# Altium footprint library PC104_singleHeader_footprint.PcbLib: 4 footprints
Each footprint in its own frame and in the unit in brackets; x right, y up, seen from the top. Pads: shape width x height; smd on the part's side, far side on the other; paste and mask are expansions set on the pad; w line width, h text height; cw(c..) or ccw(c..) is an arc to the next point about the centre after c.
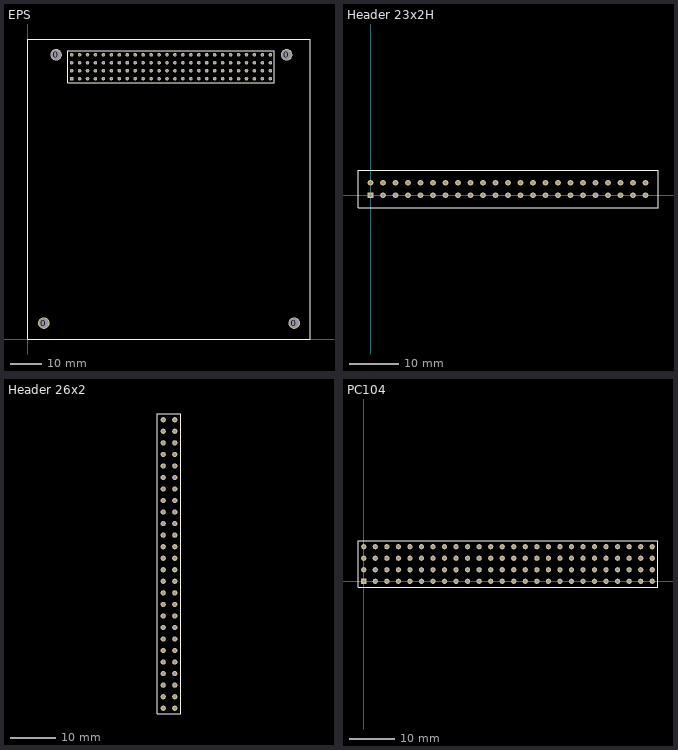
[diagram p0: the footprints below, top view; thin cyan lines are the x and y axes]

## EPS [mil] "3rd gen 1U EPS from clydespace"
height 487.8
pads (108):
  round 145 hole 125: 0(200,200) 0(355,3575) 0(3255,3575) 0(3350,200)
  rect 45x45 hole 25 square: 1(550,3275)
  round 45 hole 25 square: 2(550,3375) 3(650,3275) 4(650,3375) 5(750,3275) 6(750,3375) 7(850,3275) 8(850,3375) 9(950,3275) 10(950,3375) 11(1050,3275) 12(1050,3375) 13(1150,3275) 14(1150,3375) 15(1250,3275) 16(1250,3375) 17(1350,3275) 18(1350,3375) 19(1450,3275) 20(1450,3375) 21(1550,3275) 22(1550,3375) 23(1650,3275) 24(1650,3375) 25(1750,3275) 26(1750,3375) 27(1850,3275) 28(1850,3375) 29(1950,3275) 30(1950,3375) 31(2050,3275) 32(2050,3375) 33(2150,3275) 34(2150,3375) 35(2250,3275) 36(2250,3375) 37(2350,3275) 38(2350,3375) 39(2450,3275) 40(2450,3375) 41(2550,3275) 42(2550,3375) 43(2650,3275) 44(2650,3375) 45(2750,3275) 46(2750,3375) 47(2850,3275) 48(2850,3375) 49(2950,3275) 50(2950,3375) 51(3050,3275) 52(3050,3375) 53(550,3475) 54(550,3575) 55(650,3475) 56(650,3575) 57(750,3475) 58(750,3575) 59(850,3475) 60(850,3575) 61(950,3475) 62(950,3575) 63(1050,3475) 64(1050,3575) 65(1150,3475) 66(1150,3575) 67(1250,3475) 68(1250,3575) 69(1350,3475) 70(1350,3575) 71(1450,3475) 72(1450,3575) 73(1550,3475) 74(1550,3575) 75(1650,3475) 76(1650,3575) 77(1750,3475) 78(1750,3575) 79(1850,3475) 80(1850,3575) 81(1950,3475) 82(1950,3575) 83(2050,3475) 84(2050,3575) 85(2150,3475) 86(2150,3575) 87(2250,3475) 88(2250,3575) 89(2350,3475) 90(2350,3575) 91(2450,3475) 92(2450,3575) 93(2550,3475) 94(2550,3575) 95(2650,3475) 96(2650,3575) 97(2750,3475) 98(2750,3575) 99(2850,3475) 100(2850,3575) 101(2950,3475) 102(2950,3575) 103(3050,3475) 104(3050,3575)
Top Overlay:
  lines w10: 0,0 3550.2,0 3550.2,3773.62 0,3773.62 0,0 ; 500,3225 3100,3225 3100,3625 500,3625 500,3225

## Header 23x2H [mil] "23 pin, two row header"
pads (46):
  rect 45x45 hole 25 square: 1(0,0)
  round 45 hole 25 square: 2(0,100) 3(100,0) 4(100,100) 5(200,0) 6(200,100) 7(300,0) 8(300,100) 9(400,0) 10(400,100) 11(500,0) 12(500,100) 13(600,0) 14(600,100) 15(700,0) 16(700,100) 17(800,0) 18(800,100) 19(900,0) 20(900,100) 21(1000,0) 22(1000,100) 23(1100,0) 24(1100,100) 25(1200,0) 26(1200,100) 27(1300,0) 28(1300,100) 29(1400,0) 30(1400,100) 31(1500,0) 32(1500,100) 33(1600,0) 34(1600,100) 35(1700,0) 36(1700,100) 37(1800,0) 38(1800,100) 39(1900,0) 40(1900,100) 41(2000,0) 42(2000,100) 43(2100,0) 44(2100,100) 45(2200,0) 46(2200,100)
Top Overlay:
  lines w10: -100,-100 -100,200 2300,200 2300,-100 -100,-100

## Header 26x2 [mil]
pads (54):
  round 45 hole 25 square: 1(-49600,-49900) 1(-49600,-49900) 2(-49700,-49900) 2(-49700,-49900) 3(-49600,-49800) 4(-49700,-49800) 5(-49600,-49700) 6(-49700,-49700) 7(-49600,-49600) 8(-49700,-49600) 9(-49600,-49500) 10(-49700,-49500) 11(-49600,-49400) 12(-49700,-49400) 13(-49600,-49300) 14(-49700,-49300) 15(-49600,-49200) 16(-49700,-49200) 17(-49600,-49100) 18(-49700,-49100) 19(-49600,-49000) 20(-49700,-49000) 21(-49600,-48900) 22(-49700,-48900) 23(-49600,-48800) 24(-49700,-48800) 25(-49600,-48700) 26(-49700,-48700) 27(-49600,-48600) 28(-49700,-48600) 29(-49600,-48500) 30(-49700,-48500) 31(-49600,-48400) 32(-49700,-48400) 33(-49600,-48300) 34(-49700,-48300) 35(-49600,-48200) 36(-49700,-48200) 37(-49600,-48100) 38(-49700,-48100) 39(-49600,-48000) 40(-49700,-48000) 41(-49600,-47900) 42(-49700,-47900) 43(-49600,-47800) 44(-49700,-47800) 45(-49600,-47700) 46(-49700,-47700) 47(-49600,-47600) 48(-49700,-47600) 49(-49600,-47500) 50(-49700,-47500) 51(-49600,-47400) 52(-49700,-47400)
Top Overlay:
  lines w10: -49750,-49950 -49750,-47350 -49550,-47350 -49550,-49950 -49750,-49950

## PC104 [mil] "3rd gen 1U EPS from clydespace"
height 487.8
pads (104):
  rect 45x45 hole 25 square: 1(0,0)
  round 45 hole 25 square: 2(0,100) 3(100,0) 4(100,100) 5(200,0) 6(200,100) 7(300,0) 8(300,100) 9(400,0) 10(400,100) 11(500,0) 12(500,100) 13(600,0) 14(600,100) 15(700,0) 16(700,100) 17(800,0) 18(800,100) 19(900,0) 20(900,100) 21(1000,0) 22(1000,100) 23(1100,0) 24(1100,100) 25(1200,0) 26(1200,100) 27(1300,0) 28(1300,100) 29(1400,0) 30(1400,100) 31(1500,0) 32(1500,100) 33(1600,0) 34(1600,100) 35(1700,0) 36(1700,100) 37(1800,0) 38(1800,100) 39(1900,0) 40(1900,100) 41(2000,0) 42(2000,100) 43(2100,0) 44(2100,100) 45(2200,0) 46(2200,100) 47(2300,0) 48(2300,100) 49(2400,0) 50(2400,100) 51(2500,0) 52(2500,100) 53(0,200) 54(0,300) 55(100,200) 56(100,300) 57(200,200) 58(200,300) 59(300,200) 60(300,300) 61(400,200) 62(400,300) 63(500,200) 64(500,300) 65(600,200) 66(600,300) 67(700,200) 68(700,300) 69(800,200) 70(800,300) 71(900,200) 72(900,300) 73(1000,200) 74(1000,300) 75(1100,200) 76(1100,300) 77(1200,200) 78(1200,300) 79(1300,200) 80(1300,300) 81(1400,200) 82(1400,300) 83(1500,200) 84(1500,300) 85(1600,200) 86(1600,300) 87(1700,200) 88(1700,300) 89(1800,200) 90(1800,300) 91(1900,200) 92(1900,300) 93(2000,200) 94(2000,300) 95(2100,200) 96(2100,300) 97(2200,200) 98(2200,300) 99(2300,200) 100(2300,300) 101(2400,200) 102(2400,300) 103(2500,200) 104(2500,300)
Top Overlay:
  lines w10: -50,-50 2550,-50 2550,350 -50,350 -50,-50